# Altium integrated library Test_Points.IntLib: 1 symbol
Pins are listed as number, name and electrical type; pins without a type are passive.

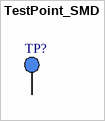
[diagram p0: symbol TestPoint_SMD]

## TestPoint_SMD
designator TP?, comment TP  (value not drawn)
2mm diameter circular test point,
footprint TP_SMD_2mm (Circular Test Point (2mm radius))
pins: 1 TP "Test Point"